# Altium footprint library lm2907.PcbLib: 1 footprints
Each footprint in its own frame and in the unit in brackets; x right, y up, seen from the top. Pads: shape width x height; smd on the part's side, far side on the other; paste and mask are expansions set on the pad; w line width, h text height; cw(c..) or ccw(c..) is an arc to the next point about the centre after c.
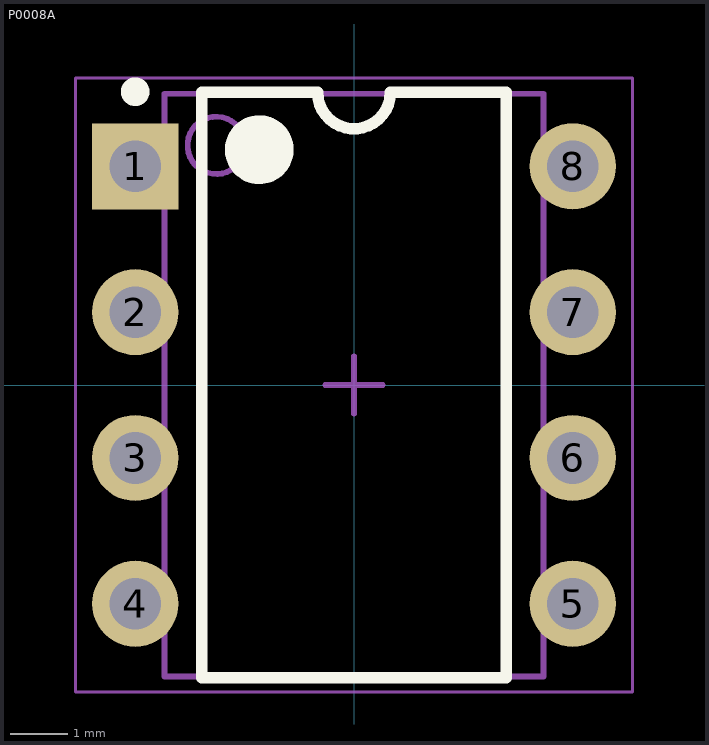
[diagram p0: the footprint, top view; thin cyan lines are the x and y axes]

## P0008A [mm] "DIP, 8-Leads, Body 10.15x6.6mm, Pitch 2.54mm"
height 5.08
pads (8):
  rect 1.5x1.5 hole 0.9: 1(-3.81,3.81)
  round 1.5 hole 0.9: 2(-3.81,1.27) 3(-3.81,-1.27) 4(-3.81,-3.81) 5(3.81,-3.81) 6(3.81,-1.27) 7(3.81,1.27) 8(3.81,3.81)
Top Overlay:
  circle w0.6: c-1.65,4.1 r0.3
  circle w0.25: c-3.81,5.11 r0.125
  lines w0.2: -2.65,-5.1 2.65,-5.1 2.65,5.1 0.635,5.1 cw(c0,5.1) -0.635,5.1 -2.65,5.1 -2.65,-5.1
Mechanical 1:
  text ".Designator" at -1.524,-0.508 h1.02
Mechanical 13:
  circle w0.1: c-2.4,4.175 r0.5
  lines w0.1: -3.3,-5.075 3.3,-5.075 3.3,5.075 -3.3,5.075 -3.3,-5.075
Mechanical 15:
  lines w0.05: -4.85,-5.35 4.85,-5.35 4.85,5.35 -4.85,5.35 -4.85,-5.35
  lines w0.1: -0.5,0 0.5,0 ; 0,-0.5 0,0.5
3D body: height 5.08, standoff 0.51, extent -3.3,-5.075 3.3,5.075
3D body: height 0, standoff -1.6, extent 3.675,3.45 3.945,4.17
3D body: height 2.93, standoff 2.66, extent 3.3,3.31 3.945,4.31
3D body: height 2.66, standoff 0, extent 3.675,3.31 3.945,4.31
3D body: height 0, standoff -1.6, extent 3.675,0.91 3.945,1.63
3D body: height 2.93, standoff 2.66, extent 3.3,0.77 3.945,1.77
3D body: height 2.66, standoff 0, extent 3.675,0.77 3.945,1.77
3D body: height 0, standoff -1.6, extent 3.675,-1.63 3.945,-0.91
3D body: height 2.93, standoff 2.66, extent 3.3,-1.77 3.945,-0.77
3D body: height 2.66, standoff 0, extent 3.675,-1.77 3.945,-0.77
3D body: height 0, standoff -1.6, extent 3.675,-4.17 3.945,-3.45
3D body: height 2.93, standoff 2.66, extent 3.3,-4.31 3.945,-3.31
3D body: height 2.66, standoff 0, extent 3.675,-4.31 3.945,-3.31
3D body: height 0, standoff -1.6, extent -3.945,-4.17 -3.675,-3.45
3D body: height 2.93, standoff 2.66, extent -3.945,-4.31 -3.3,-3.31
3D body: height 2.66, standoff 0, extent -3.945,-4.31 -3.675,-3.31
3D body: height 0, standoff -1.6, extent -3.945,-1.63 -3.675,-0.91
3D body: height 2.93, standoff 2.66, extent -3.945,-1.77 -3.3,-0.77
3D body: height 2.66, standoff 0, extent -3.945,-1.77 -3.675,-0.77
3D body: height 0, standoff -1.6, extent -3.945,0.91 -3.675,1.63
3D body: height 2.93, standoff 2.66, extent -3.945,0.77 -3.3,1.77
3D body: height 2.66, standoff 0, extent -3.945,0.77 -3.675,1.77
3D body: height 0, standoff -1.6, extent -3.945,3.45 -3.675,4.17
3D body: height 2.93, standoff 2.66, extent -3.945,3.31 -3.3,4.31
3D body: height 2.66, standoff 0, extent -3.945,3.31 -3.675,4.31